# Altium schematic symbol library 6903 6729 xx 76.SchLib: 12 symbols
Pins are listed as number, name and electrical type; pins without a type are passive.

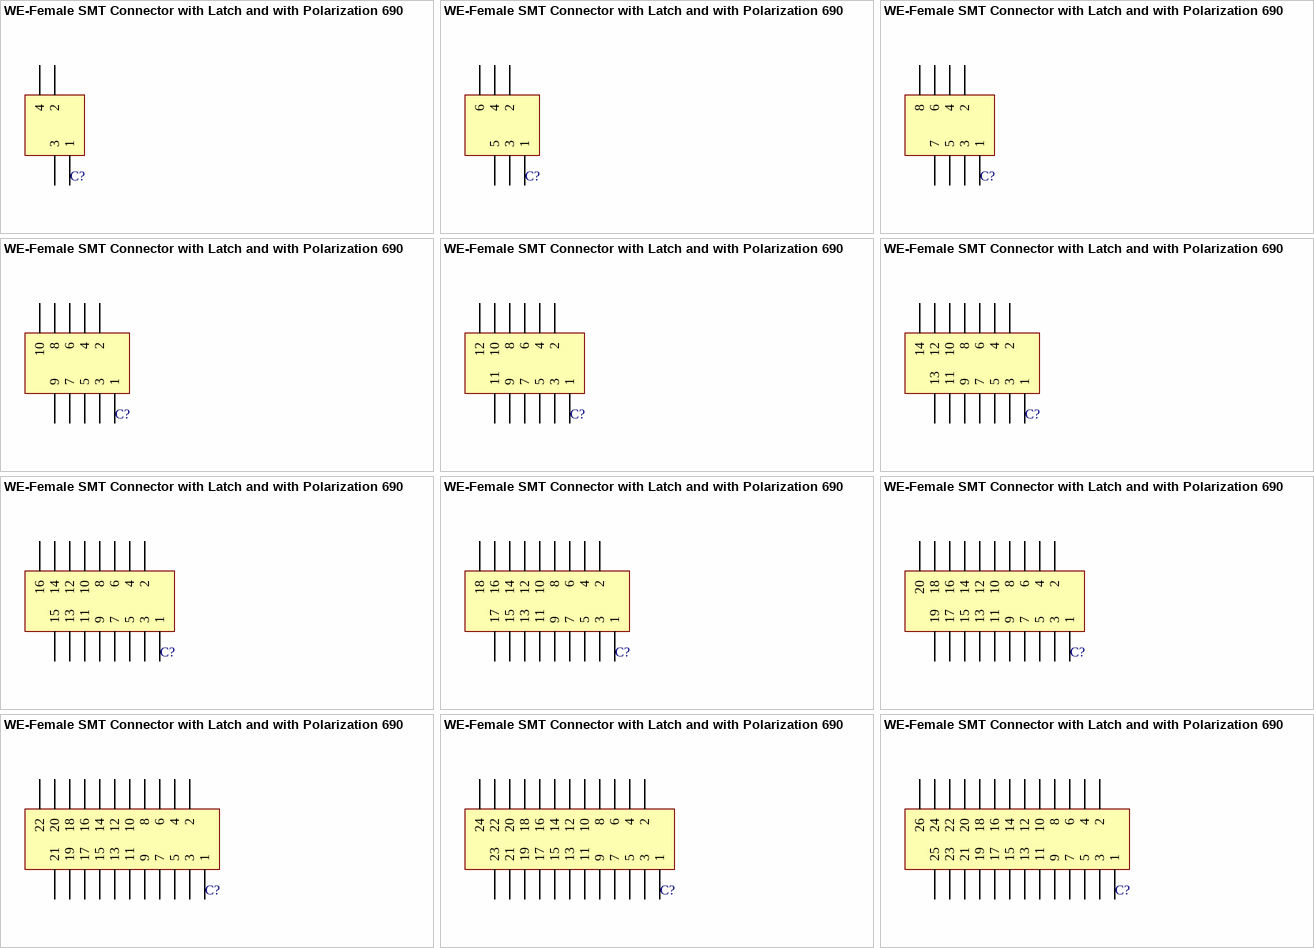
[diagram p0: symbols WE-Female SMT Connector with Latch and with Polarization 690367290476 to WE-Female SMT Connector with Latch and with Polarization 690367292676]

## WE-Female SMT Connector with Latch and with Polarization 690367290476
designator C?
WR-MM Female SMT Connector with Latch; Manufacturer: Würth Elektronik eiSos GmbH; ComponentLink1 Description: Manufacturer; ComponentLink2 Description: Datasheet; NoPins: 4; Created Date: 16 April 2013; partNo: 690367290476; ComponentLink1URL: http://www.we-online.com; ComponentLink2URL: http://katalog.we-online.de/em/datasheet/69036729xx76.pdf; Created by: Karrer Zheng
footprint 690367290476 (and Polarization, 4 pins, SMT, straight)
pins: 1, 2, 3, 4

## WE-Female SMT Connector with Latch and with Polarization 690367290676
designator C?
WR-MM Female SMT Connector with Latch; Manufacturer: Würth Elektronik eiSos GmbH; ComponentLink1 Description: Manufacturer; ComponentLink2 Description: Datasheet; NoPins: 06; Created Date: 16 April 2013; partNo: 690367290676; ComponentLink1URL: http://www.we-online.com; ComponentLink2URL: http://katalog.we-online.de/em/datasheet/69036729xx76.pdf; Created by: Karrer Zheng
footprint 690367290676 (and Polarization, 6 pins, SMT, straight)
pins: 1, 2, 3, 4, 5, 6

## WE-Female SMT Connector with Latch and with Polarization 690367290876
designator C?
WR-MM Female SMT Connector with Latch; Manufacturer: Würth Elektronik eiSos GmbH; ComponentLink1 Description: Manufacturer; ComponentLink2 Description: Datasheet; NoPins: 08; Created Date: 16 April 2013; partNo: 690367290876; ComponentLink1URL: http://www.we-online.com; ComponentLink2URL: http://katalog.we-online.de/em/datasheet/69036729xx76.pdf; Created by: Karrer Zheng
footprint 690367290876 (and Polarization, 8 pins, SMT, straight)
pins: 1, 2, 3, 4, 5, 6, 7, 8

## WE-Female SMT Connector with Latch and with Polarization 690367291076
designator C?
WR-MM Female SMT Connector with Latch; Manufacturer: Würth Elektronik eiSos GmbH; ComponentLink1 Description: Manufacturer; ComponentLink2 Description: Datasheet; NoPins: 10; Created Date: 16 April 2013; partNo: 690367291076; ComponentLink1URL: http://www.we-online.com; ComponentLink2URL: http://katalog.we-online.de/em/datasheet/69036729xx76.pdf; Created by: Karrer Zheng
footprint 690367291076 (and Polarization, 10 pins, SMT, straight)
pins: 1, 2, 3, 4, 5, 6, 7, 8, 9, 10

## WE-Female SMT Connector with Latch and with Polarization 690367291276
designator C?
WR-MM Female SMT Connector with Latch; Manufacturer: Würth Elektronik eiSos GmbH; ComponentLink1 Description: Manufacturer; ComponentLink2 Description: Datasheet; NoPins: 12; Created Date: 16 April 2013; partNo: 690367291276; ComponentLink1URL: http://www.we-online.com; ComponentLink2URL: http://katalog.we-online.de/em/datasheet/69036729xx76.pdf; Created by: Karrer Zheng
footprint 690367291276 (and Polarization, 12 pins, SMT, straight)
pins: 1, 2, 3, 4, 5, 6, 7, 8, 9, 10, 11, 12

## WE-Female SMT Connector with Latch and with Polarization 690367291476
designator C?
WR-MM Female SMT Connector with Latch; Manufacturer: Würth Elektronik eiSos GmbH; ComponentLink1 Description: Manufacturer; ComponentLink2 Description: Datasheet; NoPins: 14; Created Date: 16 April 2013; partNo: 690367291476; ComponentLink1URL: http://www.we-online.com; ComponentLink2URL: http://katalog.we-online.de/em/datasheet/69036729xx76.pdf; Created by: Karrer Zheng
footprint 690367291476 (and Polarization, 14 pins, SMT, straight)
pins: 1, 2, 3, 4, 5, 6, 7, 8, 9, 10, 11, 12, 13, 14

## WE-Female SMT Connector with Latch and with Polarization 690367291676
designator C?
WR-MM Female SMT Connector with Latch; Manufacturer: Würth Elektronik eiSos GmbH; ComponentLink1 Description: Manufacturer; ComponentLink2 Description: Datasheet; NoPins: 16; Created Date: 16 April 2013; partNo: 690367291676; ComponentLink1URL: http://www.we-online.com; ComponentLink2URL: http://katalog.we-online.de/em/datasheet/69036729xx76.pdf; Created by: Karrer Zheng
footprint 690367291676 (and Polarization, 16 pins, SMT, straight)
pins: 1, 2, 3, 4, 5, 6, 7, 8, 9, 10, 11, 12, 13, 14, 15, 16

## WE-Female SMT Connector with Latch and with Polarization 690367291876
designator C?
WR-MM Female SMT Connector with Latch; Manufacturer: Würth Elektronik eiSos GmbH; ComponentLink1 Description: Manufacturer; ComponentLink2 Description: Datasheet; NoPins: 18; Created Date: 16 April 2013; partNo: 690367291876; ComponentLink1URL: http://www.we-online.com; ComponentLink2URL: http://katalog.we-online.de/em/datasheet/69036729xx76.pdf; Created by: Karrer Zheng
footprint 690367291876 (and Polarization, 18 pins, SMT, straight)
pins: 1, 2, 3, 4, 5, 6, 7, 8, 9, 10, 11, 12, 13, 14, 15, 16, 17, 18

## WE-Female SMT Connector with Latch and with Polarization 690367292076
designator C?
WR-MM Female SMT Connector with Latch; Manufacturer: Würth Elektronik eiSos GmbH; ComponentLink1 Description: Manufacturer; ComponentLink2 Description: Datasheet; NoPins: 20; Created Date: 16 April 2013; partNo: 690367292076; ComponentLink1URL: http://www.we-online.com; ComponentLink2URL: http://katalog.we-online.de/em/datasheet/69036729xx76.pdf; Created by: Karrer Zheng
footprint 690367292076 (and Polarization, 20 pins, SMT, straight)
pins: 1, 2, 3, 4, 5, 6, 7, 8, 9, 10, 11, 12, 13, 14, 15, 16, 17, 18, 19, 20

## WE-Female SMT Connector with Latch and with Polarization 690367292276
designator C?
WR-MM Female SMT Connector with Latch; Manufacturer: Würth Elektronik eiSos GmbH; ComponentLink1 Description: Manufacturer; ComponentLink2 Description: Datasheet; NoPins: 22; Created Date: 16 April 2013; partNo: 690367292276; ComponentLink1URL: http://www.we-online.com; ComponentLink2URL: http://katalog.we-online.de/em/datasheet/69036729xx76.pdf; Created by: Karrer Zheng
footprint 690367292276 (and Polarization, 22 pins, SMT, straight)
pins: 1, 2, 3, 4, 5, 6, 7, 8, 9, 10, 11, 12, 13, 14, 15, 16, 17, 18, 19, 20, 21, 22

## WE-Female SMT Connector with Latch and with Polarization 690367292476
designator C?
WR-MM Female SMT Connector with Latch; Manufacturer: Würth Elektronik eiSos GmbH; ComponentLink1 Description: Manufacturer; ComponentLink2 Description: Datasheet; NoPins: 24; Created Date: 16 April 2013; partNo: 690367292476; ComponentLink1URL: http://www.we-online.com; ComponentLink2URL: http://katalog.we-online.de/em/datasheet/69036729xx76.pdf; Created by: Karrer Zheng
footprint 690367292476 (and Polarization, 24 pins, SMT, straight)
pins: 1, 2, 3, 4, 5, 6, 7, 8, 9, 10, 11, 12, 13, 14, 15, 16, 17, 18, 19, 20, 21, 22, 23, 24

## WE-Female SMT Connector with Latch and with Polarization 690367292676
designator C?
WR-MM Female SMT Connector with Latch; Manufacturer: Würth Elektronik eiSos GmbH; ComponentLink1 Description: Manufacturer; ComponentLink2 Description: Datasheet; NoPins: 26; Created Date: 16 April 2013; partNo: 690367292676; ComponentLink1URL: http://www.we-online.com; ComponentLink2URL: http://katalog.we-online.de/em/datasheet/69036729xx76.pdf; Created by: Karrer Zheng
footprint 690367292676 (and Polarization, 26 pins, SMT, straight)
pins: 1, 2, 3, 4, 5, 6, 7, 8, 9, 10, 11, 12, 13, 14, 15, 16, 17, 18, 19, 20, 21, 22, 23, 24, 25, 26